# Altium footprint library FSV12100V.PcbLib: 1 footprints
Each footprint in its own frame and in the unit in brackets; x right, y up, seen from the top. Pads: shape width x height; smd on the part's side, far side on the other; paste and mask are expansions set on the pad; w line width, h text height; cw(c..) or ccw(c..) is an arc to the next point about the centre after c.
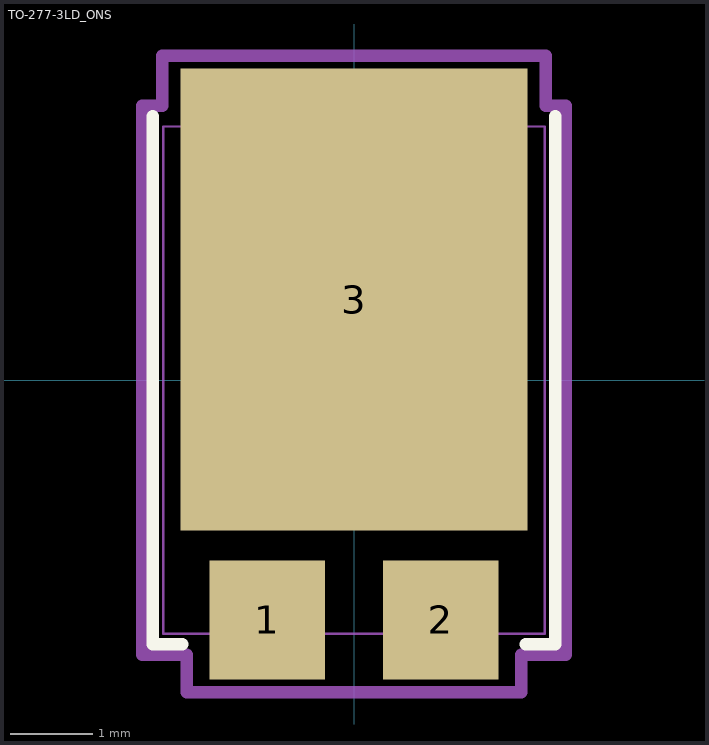
[diagram p0: the footprint, top view; thin cyan lines are the x and y axes]

## TO-277-3LD_ONS [mm]
height 1.2
pads (3):
  rect 1.397x1.445 smd paste+0 mask+0: 1(-1.05,-2.905) 2(1.05,-2.905)
  rect 4.2x5.602 smd paste+0 mask+0: 3(0,0.976)
Top Overlay:
  lines w0.152: -2.438,3.2 -2.438,-3.2 -2.081,-3.2 ; 2.081,-3.2 2.438,-3.2 2.438,3.2
Mechanical 13:
  lines w0.025: -2.311,-3.073 2.311,-3.073 2.311,3.073 -2.311,3.073 -2.311,-3.073
Mechanical 15:
  lines w0.152: -2.565,-3.327 -2.565,3.327 -2.324,3.327 -2.324,3.931 2.324,3.931 2.324,3.327 2.565,3.327 2.565,-3.327 2.026,-3.327 2.026,-3.781 -2.026,-3.781 -2.026,-3.327 -2.565,-3.327
3D body: height 0.25, standoff 0, extent 0,0 0.254,0.254
3D body "TO-277-3LD_ONS.step": height 1.22, standoff 0, extent -2.311,-3.073 2.311,3.581